# Altium footprint library 28Pin-Project-V1I1.PcbLib: 28 footprints (part 1 of 2)
Each footprint in its own frame and in the unit in brackets; x right, y up, seen from the top. Pads: shape width x height; smd on the part's side, far side on the other; paste and mask are expansions set on the pad; w line width, h text height; cw(c..) or ccw(c..) is an arc to the next point about the centre after c.
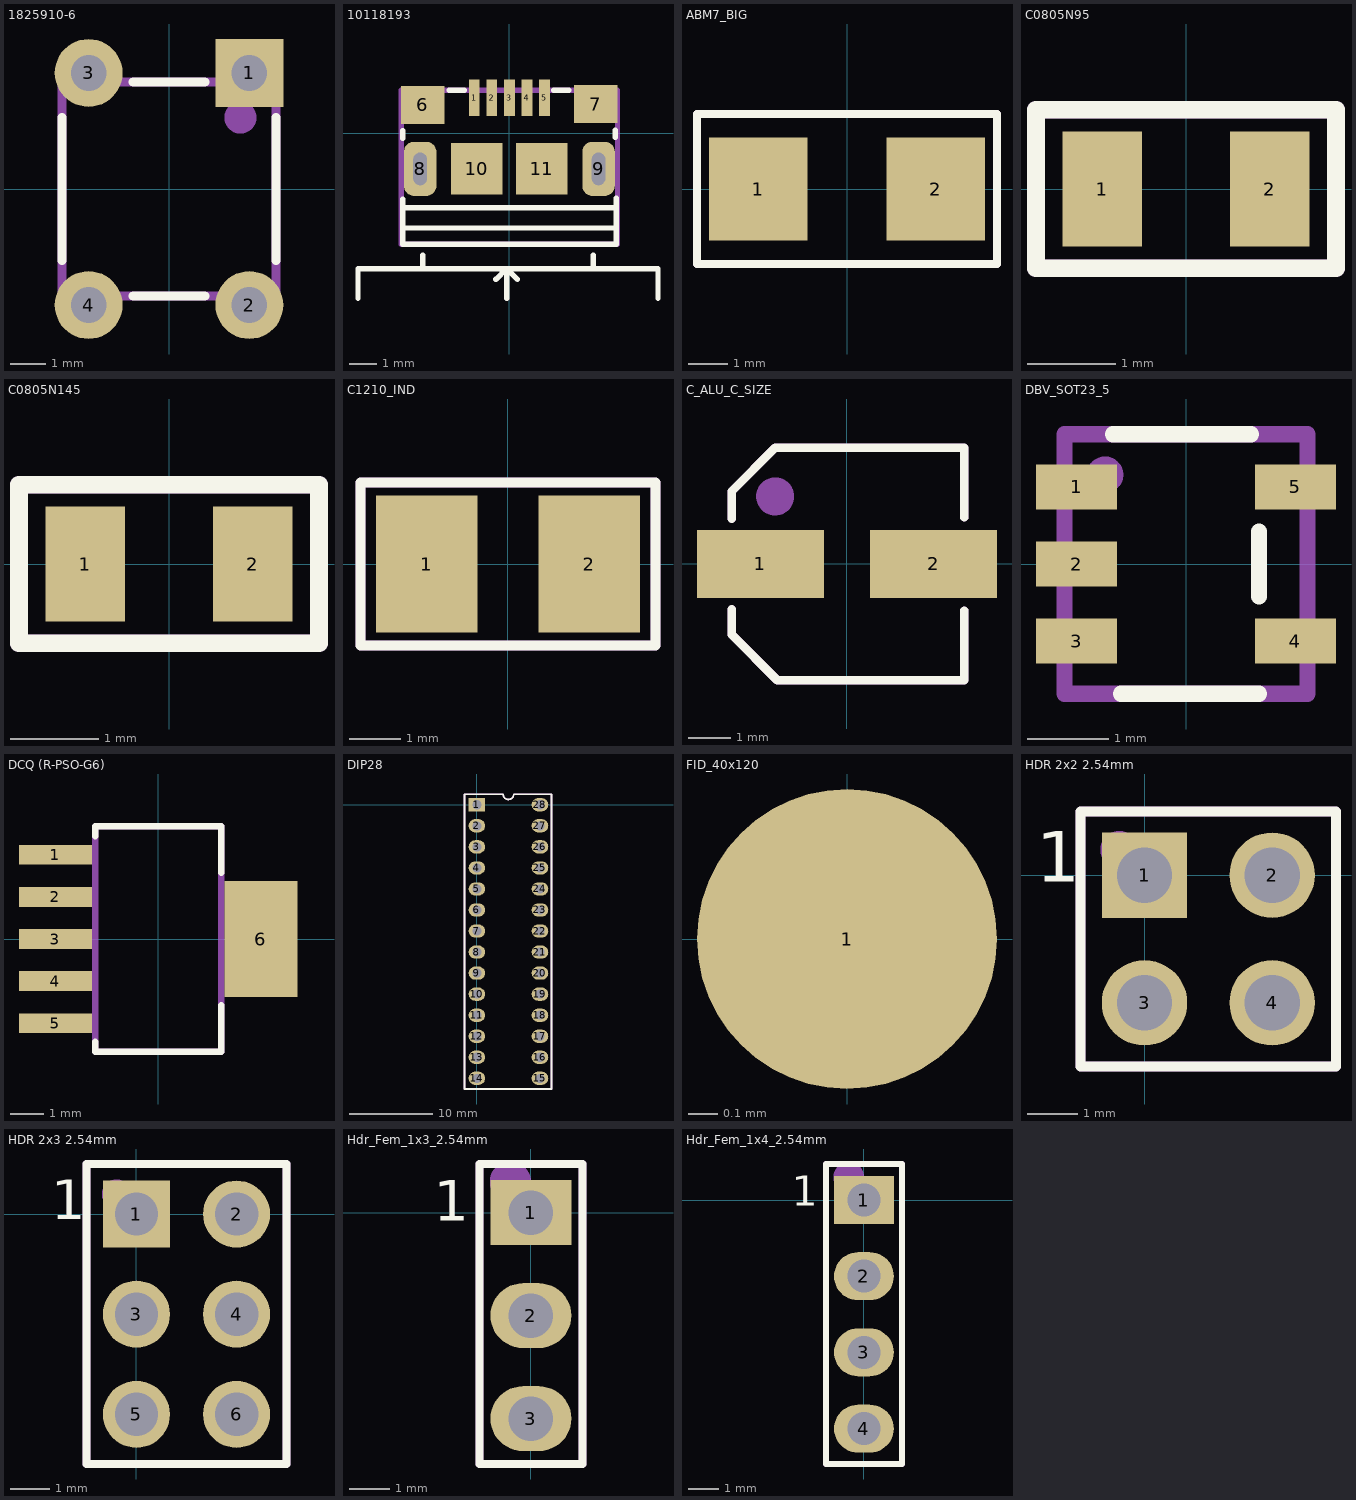
[diagram p0: the footprints below, top view; thin cyan lines are the x and y axes]

## 28_DIP_7.62mm_SOCKET [mm]
3D body "dil_socket.stp": height 4.2, standoff -3.17, extent -1.24,-34.26 8.86,1.24

## 1825910-6 [mm]
pads (4):
  rect 1.9x1.9 hole 1: 1(2.25,3.25)
  round 1.9 hole 1: 2(2.25,-3.25) 3(-2.25,3.25) 4(-2.25,-3.25)
Top Overlay:
  lines w0.254: -3,-2 -3,2 ; -1,-3 1,-3 ; -1,3 1,3 ; 3,-2 3,2
Mechanical 29:
  circle w0.5: c2,2 r0.2
  lines w0.254: -3,-3 -3,3 3,3 3,-3 -3,-3
  text "'.Designator'" at -1,-0.6 h1.52
3D body "FSM4JLH(1825910-5).step": height 5, standoff -3.51, extent -2.995,-3.898 2.995,3.9

## 10118193 [mm]
pads (11):
  rect 0.4x1.35 smd mask+0.05: 1(-1.3,1.313) 2(-0.65,1.313) 3(0,1.313) 4(0.65,1.313) 5(1.3,1.313)
  rect 1.6x1.4 smd: 6(-3.2,1.058) 7(3.2,1.088)
  rrect60% 1.2x2 hole 0.5 slot 1.2 at 90 deg: 8(-3.3,-1.312) 9(3.3,-1.312)
  rect 1.9x1.9 smd: 10(-1.2,-1.312) 11(1.2,-1.312)
Top Overlay:
  lines w0.2: -5.6,-6.1 -5.6,-5 5.5,-5 5.5,-6.1 ; -3.95,-2.75 3.925,-2.75 ; -3.95,-2.425 -3.95,-4.1 3.95,-4.1 3.95,-2.4 ; -3.95,-0.175 -3.95,0.1 ; -3.9,-3.5 3.9,-3.5 ; -3.2,-5 -3.2,-4.5 ; -2.225,1.6 -1.675,1.6 ; -0.5,-5.4 -0.1,-5 ; -0.1,-6.1 -0.1,-5 ; 0.3,-5.4 -0.1,-5 ; 1.65,1.6 2.2,1.6 ; 3.1,-5 3.1,-4.5 ; 3.925,-0.15 3.925,0.125
Mechanical 29:
  lines w0.2: -4,-4.1 -4,1.6 4,1.6 4,-4.1 -4,-4.1
  text "'.Designator'" at -1.3,-1.8 h1.52
3D body "10118193-0001lfc.stp": height 2.87, standoff -0.73, extent -3.928,-4.088 3.928,1.573

## ABM7_BIG [mm]
pads (2):
  rect 2.5x2.6 smd: 1(-2.25,0) 2(2.25,0)
Top Overlay:
  lines w0.2: -3.8,-1.9 3.8,-1.9 3.8,1.9 -3.8,1.9 -3.8,-1.9
Mechanical 29:
  lines w0.2: -3.8,-1.9 -3.8,1.9 3.8,1.9 3.8,-1.9 -3.8,-1.9
  text "'.Designator'" at -1.4,-0.6 h1.52
3D body "ABM7.STEP": height 1.41, standoff 0.01, extent -2.997,-1.753 2.997,1.753

## C0805N95 [mm]
pads (2):
  rect 0.9x1.3 smd: 1(-0.95,0) 2(0.95,0)
Top Overlay:
  lines w0.2: -1.7,-0.9 -1.7,0.9 1.7,0.9 1.7,-0.9 -1.7,-0.9
Mechanical 29:
  lines w0.2: -1.7,-0.9 1.7,-0.9 1.7,0.9 -1.7,0.9 -1.7,-0.9
  text "'.Designator'" at -0.6,-0.2 h0.6
3D body "CAPC2012X94N EIA 0805.step": height 0.95, standoff 0.01, extent -1,-0.6 1,0.6

## C0805N145 [mm]
pads (2):
  rect 0.9x1.3 smd: 1(-0.95,0) 2(0.95,0)
Top Overlay:
  lines w0.2: -1.7,-0.9 1.7,-0.9 1.7,0.9 -1.7,0.9 -1.7,-0.9
Mechanical 29:
  lines w0.2: -1.7,-0.9 -1.7,0.9 1.7,0.9 1.7,-0.9 -1.7,-0.9
  text "'.Designator'" at -0.6,-0.2 h0.6
3D body "CAPC2012X94N EIA 0805.step": height 0.95, standoff 0.01, extent -1,-0.6 1,0.6
3D body "CAPC2012X94N EIA 0805.step": height 1.45, standoff 0.51, extent -1,-0.6 1,0.6

## C1210_IND [mm]
pads (2):
  rect 2x2.7 smd: 1(-1.6,0) 2(1.6,0)
Top Overlay:
  lines w0.2: -2.9,-1.6 -2.9,1.6 2.9,1.6 2.9,-1.6 -2.9,-1.6
Mechanical 29:
  lines w0.2: -2.9,-1.6 2.9,-1.6 2.9,1.6 -2.9,1.6 -2.9,-1.6
  text "'.Designator'" at -1.7,-0.5 h1
3D body "L1210R2R2MDWIT.step": height 2.71, standoff 0.01, extent -1.7,-1.35 1.7,1.35

## C_ALU_C_SIZE [mm]
pads (2):
  rect 3x1.6 smd: 1(-2.05,0) 2(2.05,0)
Top Overlay:
  lines w0.2: -2.725,-1.075 -2.725,-1.65 -2.725,-1.675 -1.65,-2.75 2.75,-2.75 ; -2.725,1.075 -2.725,1.725 -1.7,2.75 2.75,2.75 ; 2.775,-2.75 2.775,-1.1 ; 2.775,1.1 2.775,2.75
Mechanical 29:
  circle w0.5: c-1.7,1.6 r0.2
  lines w0.2: -2.725,-1.075 -2.725,-1.65 -2.725,-1.675 -1.65,-2.75 2.75,-2.75 ; -2.725,1.075 -2.725,1.725 -1.7,2.75 2.75,2.75 ; 2.775,-2.75 2.775,-1.1 ; 2.775,1.1 2.775,2.75
  text "'.Designator'" at -1.1,-0.7 h1.5
3D body "Capacitor size C.step": height 5.41, standoff -0.01, extent -2.925,-2.625 2.975,2.675

## DBV_SOT23_5 [mm]
pads (5):
  rect 1x0.55 smd: 1(-1.35,0.95) 2(-1.35,0) 3(-1.35,-0.95) 4(1.35,-0.95) 5(1.35,0.95)
Top Overlay:
  lines w0.2: -0.9,1.6 0.8,1.6 ; -0.8,-1.6 0.9,-1.6 ; 0.9,-0.4 0.9,0.4
Mechanical 29:
  circle w0.254: c-1,1.1 r0.1
  lines w0.2: -1.5,-1.6 -1.5,1.6 1.5,1.6 1.5,-1.6 -1.5,-1.6
  text "'.Designator'" at -0.6,-0.2 h0.6
3D body "TPS79333DBVR.step": height 1.61, standoff -0.01, extent -1.514,-1.525 1.513,1.525

## DCQ (R-PSO-G6) [mm]
pads (6):
  rect 2.2x0.6 smd: 1(-3.1,2.54) 2(-3.1,1.27) 3(-3.1,0) 4(-3.1,-1.27) 5(-3.1,-2.54)
  rect 2.2x3.5 smd: 6(3.1,0)
Top Overlay:
  lines w0.2: -1.9,-3.1 -1.9,-3.4 1.9,-3.4 1.9,-2 ; -1.9,3.1 -1.9,3.4 1.9,3.4 1.9,2
Mechanical 29:
  lines w0.2: -1.9,-3.4 -1.9,-3.1 -1.9,3.4 1.9,3.4 1.9,-3.4 -1.9,-3.4
  text "'.Designator'" at -0.8,-0.4 h1.5
3D body "TPS73701DCQ.step": height 1.79, standoff -0.01, extent -3.631,-3.275 3.63,3.275

## DIP28 [mm]
pads (28):
  rect 2x1.6 hole 1.1: 1(0,0)
  oval 2x1.6 hole 1.1: 2(0,-2.54) 3(0,-5.08) 4(0,-7.62) 5(0,-10.16) 6(0,-12.7) 7(0,-15.24) 8(0,-17.78) 9(0,-20.32) 10(0,-22.86) 11(0,-25.4) 12(0,-27.94) 13(0,-30.48) 14(0,-33.02) 15(7.62,-33.02) 16(7.62,-30.48) 17(7.62,-27.94) 18(7.62,-25.4) 19(7.62,-22.86) 20(7.62,-20.32) 21(7.62,-17.78) 22(7.62,-15.24) 23(7.62,-12.7) 24(7.62,-10.16) 25(7.62,-7.62) 26(7.62,-5.08) 27(7.62,-2.54) 28(7.62,0)
Top Overlay:
  lines w0.2: -1.49,-34.31 9.01,-34.31 9.01,1.27 4.445,1.27 cw(c3.81,1.27) 3.175,1.27 -1.49,1.27 -1.49,-34.31
Mechanical 29:
  circle w1: c0.01,-0.01 r0.2
  lines w0.2: -1.49,-34.31 -1.49,1.27 3.175,1.27 ccw(c3.81,1.27) 4.445,1.27 9.01,1.27 9.01,-34.31 -1.49,-34.31
  text "'.Designator'" at 5.31,-16.51 h3
3D body "User Library-User Library-ATmega 48_88_168_328 28P3_90DEG.step": height 7.94, standoff 0.82, extent -0.143,-33.835 7.763,0.815

## FID_40x120 [mil]
pads (1):
  round 40 smd paste-40 mask+40: 1(0,0)

## HDR 2x2 2.54mm [mm]
pads (4):
  rect 1.7x1.7 hole 1.1: 1(0,0)
  round 1.7 hole 1.1: 2(2.54,0) 3(0,-2.54) 4(2.54,-2.54)
Top Overlay:
  lines w0.2: -1.27,-3.81 -1.27,1.27 3.81,1.27 3.81,-3.81 -1.27,-3.81
  text "1" at -2.159,-0.127 h1
Mechanical 29:
  circle w0.381: c-0.508,0.508 r0.18
  lines w0.2: -1.27,-3.81 3.81,-3.81 3.81,1.27 -1.27,1.27 -1.27,-3.81
  text "'.Designator'" at 1.905,-2.032 h1.52
3D body "961204-6404-XX.stp": height 8.01, standoff -3.29, extent -1.23,-3.81 3.77,1.27

## HDR 2x3 2.54mm [mm]
pads (6):
  rect 1.7x1.7 hole 1.1: 1(0,0)
  round 1.7 hole 1.1: 2(2.54,0) 3(0,-2.54) 4(2.54,-2.54) 5(0,-5.08) 6(2.54,-5.08)
Top Overlay:
  lines w0.2: -1.27,-6.34 -1.27,1.27 3.81,1.27 3.81,-6.34 -1.27,-6.34
  text "1" at -2.159,-0.127 h1
Mechanical 29:
  circle w0.381: c-0.508,0.508 r0.18
  lines w0.2: -1.27,-6.34 3.81,-6.34 3.81,1.27 -1.27,1.27 -1.27,-6.34
  text "'.Designator'" at 1.778,-3.683 h1.52
3D body "961206-6404-XX.stp": height 8.01, standoff -3.29, extent -1.23,-6.35 3.77,1.27

## Hdr_Fem_1x3_2.54mm [mm]
pads (3):
  rect 2x1.6 hole 1.1: 1(0,0)
  oval 2x1.6 hole 1.1: 2(0,-2.54) 3(0,-5.08)
Top Overlay:
  lines w0.2: -1.27,-6.2 1.27,-6.2 1.27,1.2 -1.27,1.2 -1.27,-6.2
  text "1" at -2.4,-0.2 h1
Mechanical 29:
  circle w0.508: c-0.508,0.762 r0.254
  lines w0.2: -1.27,-6.2 -1.27,1.2 1.27,1.2 1.27,-6.2 -1.27,-6.2
  text "'.Designator'" at 0.6,-3.7 h1.52
3D body "HDR_1x3_White.stp": height 8.39, standoff -3.11, extent -1.21,-6.11 1.2,1.11

## Hdr_Fem_1x4_2.54mm [mm]
pads (4):
  rect 2x1.6 hole 1.1: 1(0,0)
  oval 2x1.6 hole 1.1: 2(0,-2.54) 3(0,-5.08) 4(0,-7.62)
Top Overlay:
  lines w0.2: -1.27,-8.8 1.27,-8.8 1.27,1.2 -1.27,1.2 -1.27,-8.8
  text "1" at -2.4,-0.2 h1
Mechanical 29:
  circle w0.508: c-0.508,0.762 r0.254
  lines w0.2: -1.27,-8.8 -1.27,1.2 1.27,1.2 1.27,-8.8 -1.27,-8.8
  text "'.Designator'" at 0.6,-4.8 h1.52
3D body "HDR_1x4_White.stp": height 8.39, standoff -3.11, extent -1.21,-8.68 1.2,1.08